# Altium footprint library Fuse.PcbLib: 1 footprints
Each footprint in its own frame and in the unit in brackets; x right, y up, seen from the top. Pads: shape width x height; smd on the part's side, far side on the other; paste and mask are expansions set on the pad; w line width, h text height; cw(c..) or ccw(c..) is an arc to the next point about the centre after c.
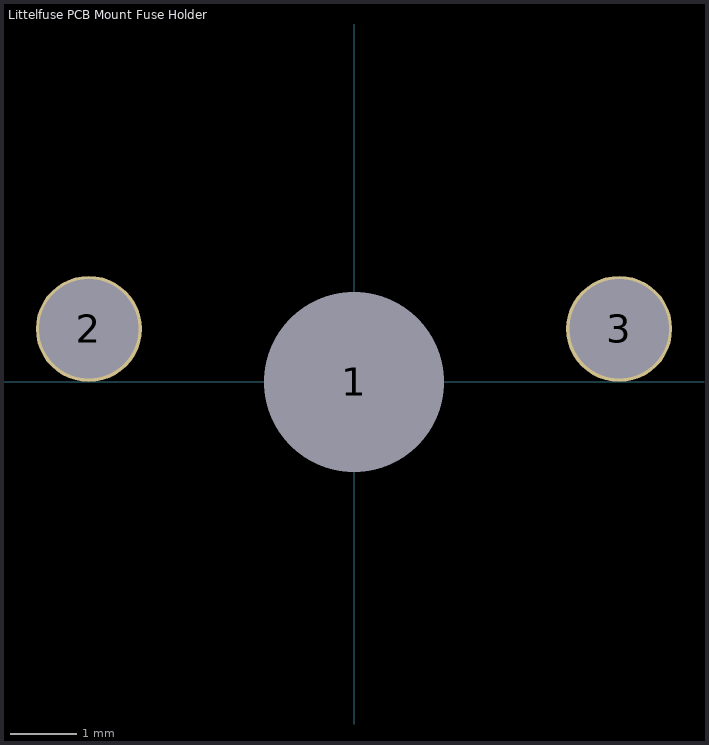
[diagram p0: the footprint, top view; thin cyan lines are the x and y axes]

## Littelfuse PCB Mount Fuse Holder [mm] "https://www.littelfuse.com/~/media/commercial-vehicle/datasheets/automotive-fuse-holders/mini/littelfuse-fuseholder-mini-fl1-pcb-mount.pdf"
pads (3):
  round 2.7 hole 2.718: 1(0,0)
  round 1.6 hole 1.5: 2(-4,0.8) 3(4,0.8)
3D body "178.6764.0001.stp": height 15, standoff -5, extent -7.1,-3.725 7.1,3.725